# EAGLE library part MIC22405 (library Microchip)
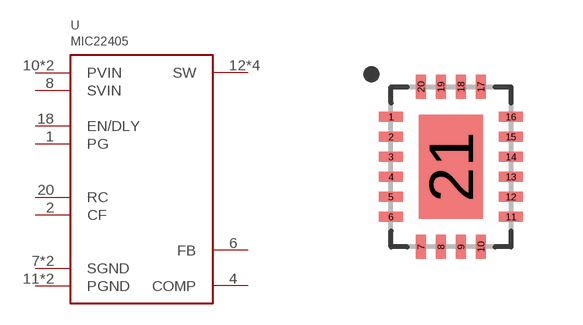
[diagram p52: symbol with the pads of VQFN20; footprint VQFN20]

Designator prefix U

## MIC22405  [VQFN20]
1  PG
2  CF
4  COMP
6  FB
7  SGND
8  SVIN
10  PVIN
11  PGND
12  SW
13  SW
14  SW
15  SW
16  PGND
17  PVIN
18  EN/DLY
20  RC
21  SGND

## Footprint VQFN20 (pad centres in mm)
smd 0.6 x 0.25: 1 -1.5,1.25; 2 -1.5,0.75; 3 -1.5,0.25; 4 -1.5,-0.25; 5 -1.5,-0.75; 6 -1.5,-1.25; 11 1.5,-1.25; 12 1.5,-0.75; 13 1.5,-0.25; 14 1.5,0.25; 15 1.5,0.75; 16 1.5,1.25
smd 0.25 x 0.6: 7 -0.75,-2; 8 -0.25,-2; 9 0.25,-2; 10 0.75,-2; 17 0.75,2; 18 0.25,2; 19 -0.25,2; 20 -0.75,2
smd 1.6 x 2.6: 21 0,0